# Altium integrated library AWT.IntLib: 12 symbols
Pins are listed as number, name and electrical type; pins without a type are passive.

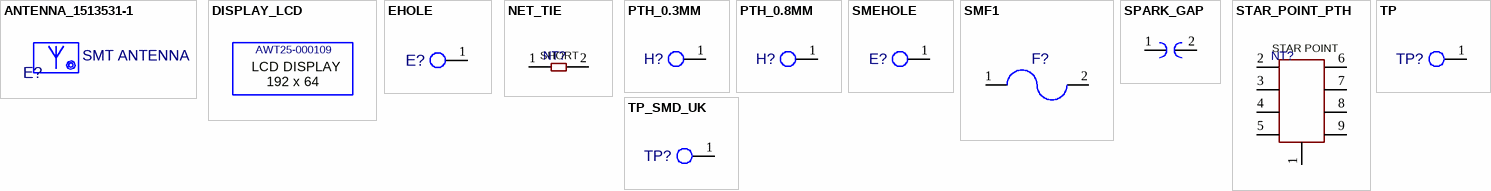
[diagram p0: symbols ANTENNA_1513531-1 to TP_SMD_UK]

## ANTENNA_1513531-1
designator E?, comment value SMT ANTENNA  (hidden comment: AWT25-000166)  (mechanical)
Antenna; Power Rating: 10W; ECAD_Revision: 1; Librarian: UK; PartNumber: AWT25-000166; Item: *
footprint Tyco-Antenna (1513531-1 REV1)

## DISPLAY_LCD
designator DS?, comment AWT25-000109
DISPLAY, LCD; ECAD_Revision: 1; Librarian: UK; Item: *; PartNumber: AWT25-000109
footprint DISPLAY_BOARD (Size 145 x 72.5mm, Rev. 1)
pins: 1 hidden
text: LCD DISPLAY; 192 x 64

## EHOLE
designator E?  (no BOM)
EHOLE; ECAD_Revision: 2; Librarian: US; Item: *; Value: *
footprint EHOLE
pins: 1

## NET_TIE
designator NT?  (value not drawn)
INTENDED SHORT BETWEEN NETS; ECAD_Revision: 1; Librarian: UK; PartNumber: *; Item: *; Value: *
footprint NET_TIE (Intended copper short between nets.)
pins: 1, 2
text: SHORT

## PTH_0.3MM
designator H?, comment none  (value not drawn)  (no BOM)
Hole for soldering wire to; ECAD_Revision: 1; Librarian: UK; Item: *; Value: *; PartNumber: none
footprint PTH_0.3mm (Hole for soldering wire to. Rev.1)
pins: 1

## PTH_0.8MM
designator H?, comment none  (value not drawn)  (no BOM)
Hole for soldering wire to; ECAD_Revision: 1; Librarian: UK; Item: *; Value: *; PartNumber: none
footprint PTH_0.8mm (Hole for soldering wire to. Rev.1)
pins: 1

## SMEHOLE
designator E?  (no BOM)
SMEHOLE; ECAD_Revision: 2; Librarian: US; Item: *; Value: *
footprint SMEHOLE
pins: 1

## SMF1
designator F?  (value not drawn)
Fuse,; ECAD_Revision: 1; Librarian: US; PartNumber: *; HelpURL: K:\ACCELEDA\PDF Spec Files\Fuse\451_453.pdf; Item: *
footprint SMF1
pins: 1 A, 2 B

## SPARK_GAP
designator SG?  (value not drawn)  (no BOM)
SPARK_GAP; ECAD_Revision: 2; Librarian: US; PartNumber: *; Item: *; Value: *
footprint SPARK_GAP
pins: 1, 2

## STAR_POINT_PTH
designator NT?, comment none  (value not drawn)  (net tie, no BOM)
INTENDED SHORT BETWEEN NETS; ECAD_Revision: 2; Librarian: UK; PartNumber: none; Item: *; Value: *
footprint Star_Point_PTH (Star Point  Rev. 2)
pins: 1, 2, 3, 4, 5, 6, 7, 8, 9
text: STAR POINT

## TP
designator TP?  (no BOM)
TP; ECAD_Revision: 2; Librarian: US; Item: *; Value: *
footprint TP
pins: 1

## TP_SMD_UK
designator TP?, comment None  (value not drawn)  (no BOM)
TP; ECAD_Revision: 3; Librarian: UK; Item: *; Value: *; PartNumber: None
footprint TP_SMD_UK (Test Probe UK - as per AP-3-5057 Rev. 3)
pins: 1